# EAGLE library part WE-RJ45_LAN_1000_BASET_POE+ (library Wuerth_Elektronik_eiSos_Version_6-12)
WE-RJ45 LAN Transformer 1000 BaseT, PoE+ - RJ45 connector with integrated transformer common mode choke - 350 µH min.OCL with 600 mA bias - Complies with IEEE 802.3 - Extended temperature range from 0°C to +70°C available -- ADSL Modem -- Embedded PC -- LAN network applications -- Hub, Router, Switches
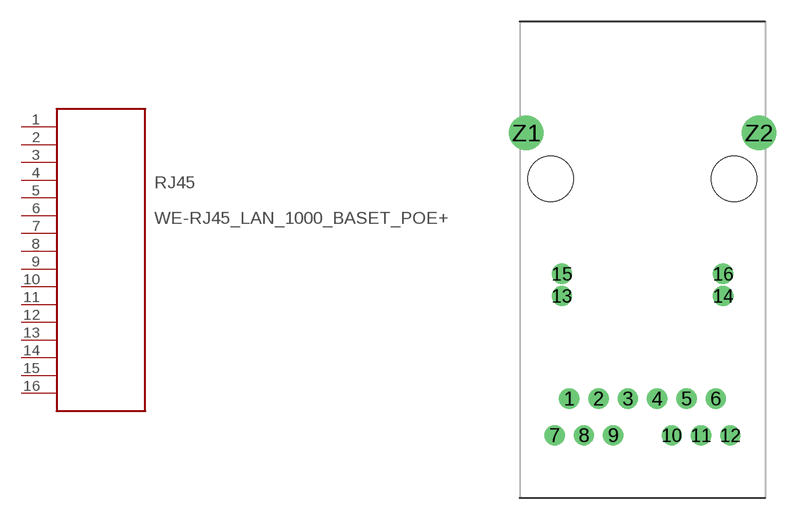
[diagram p120: symbol with the pads of WE-RJ45_LAN_1000_BASET_7499511000; footprint WE-RJ45_LAN_1000_BASET_7499511000]

Designator prefix RJ45

## WE-RJ45_LAN_1000_BASET_POE+_7499511000  [WE-RJ45_LAN_1000_BASET_7499511000]
1  1  pas
2  2  pas
3  3  pas
4  4  pas
5  5  pas
6  6  pas
7  7  pas
8  8  pas
9  9  pas
10  10  pas
11  11  pas
12  12  pas
13  13  pas
14  14  pas
15  15  pas
16  16  pas

## Footprint WE-RJ45_LAN_1000_BASET_7499511000 (pad centres in mm)
WE-RJ45 LAN Transformer 1000 BaseT, PoE+
drill 0.9 round: 1 -5.075,-9.15; 2 -3.045,-9.15; 3 -1.015,-9.15; 4 1.015,-9.15; 5 3.045,-9.15; 6 5.075,-9.15; 7 -6.09,-11.69; 8 -4.06,-11.69; 9 -2.03,-11.69; 10 2.03,-11.69; 11 4.06,-11.69; 12 6.09,-11.69; 13 -5.59,-2.03; 14 5.59,-2.03; 15 -5.59,-0.5; 16 5.59,-0.5
drill 1.6 round: Z1 -8.065,9.27; Z2 8.065,9.27
hole 3.15 at -6.35,6.09
hole 3.15 at 6.35,6.09